# Altium schematic symbol library AD630JNZ.SchLib: 2 symbols
Pins are listed as number, name and electrical type; pins without a type are passive.

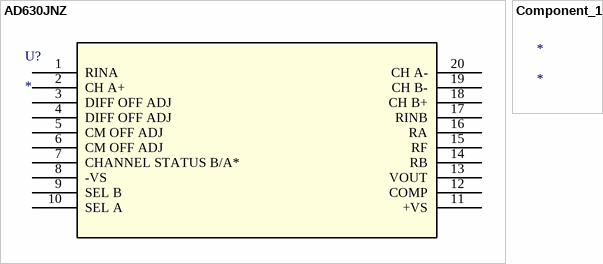
[diagram p0: symbols AD630JNZ to Component_1]

## AD630JNZ
designator U?
No Description Available; Mfr_Name: Analog Devices Inc; RefDes: RefDes; Type: Type
footprint N_20_ADI
pins: 1 RINA, 2 CH A+, 3 DIFF OFF ADJ, 4 DIFF OFF ADJ, 5 CM OFF ADJ, 6 CM OFF ADJ, 7 CHANNEL STATUS B/A*, 8 -VS (power), 9 SEL B, 10 SEL A, 11 +VS (power), 12 COMP, 13 VOUT, 14 RB, 15 RF, 16 RA, 17 RINB, 18 CH B+, 19 CH B-, 20 CH A-

## Component_1
designator *